# Altium schematic symbol library BUTTON-TACT.SchLib: 1 symbol
Pins are listed as number, name and electrical type; pins without a type are passive.

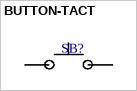
[diagram p0: symbol BUTTON-TACT]

## BUTTON-TACT
designator SB?
pins: 1  , 2  